# EAGLE library part MDSTB3 (library con-phoenix-508)
PHOENIX
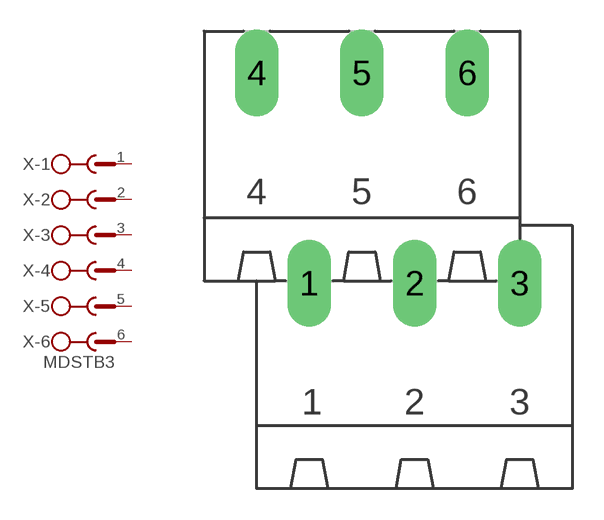
[diagram p8: symbol with the pads of MDSTB3; footprint MDSTB3]

Designator prefix X; gates -1=SK -2=SK -3=SK -4=SK -5=SK -6=SKV

## MDSTB3 (OC_FARNELL: unknown; OC_NEWARK: unknown)  [MDSTB3]
1  -1:1  pas
2  -2:1  pas
3  -3:1  pas
4  -4:1  pas
5  -5:1  pas
6  -6:1  pas

## Footprint MDSTB3 (pad centres in mm)
PHOENIX
drill 1.397 long: 1 -3.81,-5.08; 2 1.27,-5.08; 3 6.35,-5.08; 4 -6.35,5.08; 5 -1.27,5.08; 6 3.81,5.08